# Altium footprint library AudioPartLib.PcbLib: 28 footprints (part 2 of 2)
Each footprint in its own frame and in the unit in brackets; x right, y up, seen from the top. Pads: shape width x height; smd on the part's side, far side on the other; paste and mask are expansions set on the pad; w line width, h text height; cw(c..) or ccw(c..) is an arc to the next point about the centre after c.
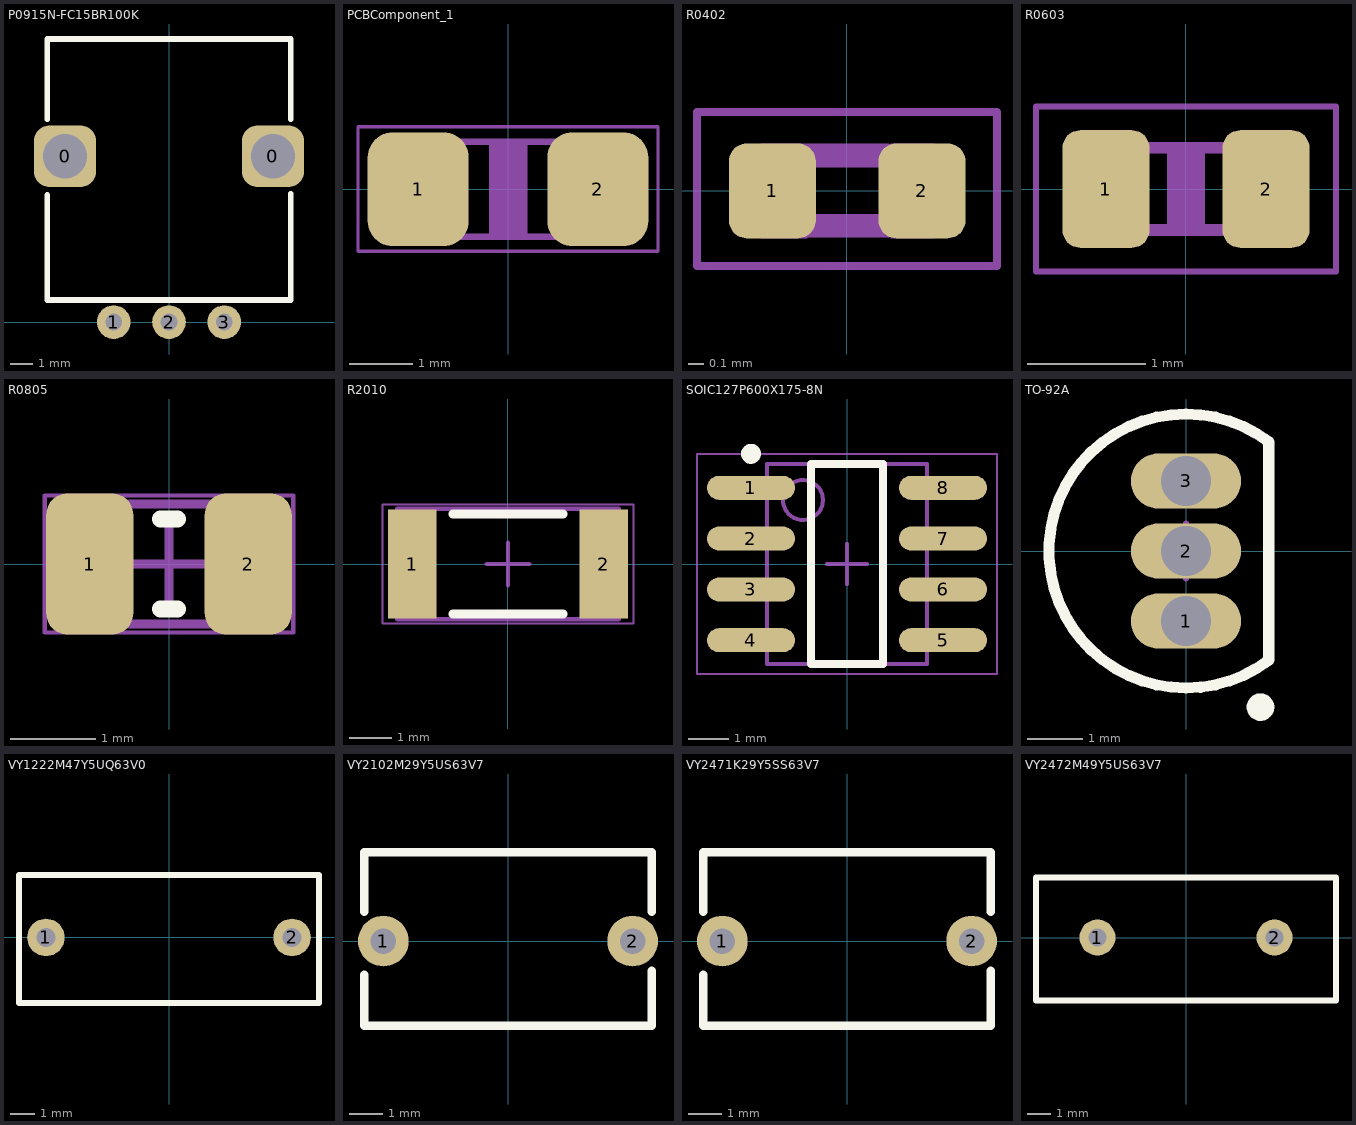
[diagram p1: the footprints below, top view; thin cyan lines are the x and y axes]

## P0915N-FC15BR100K [mm] "Vertical PCB Mounted Potentiometer Single Gang"
pads (5):
  rrect50% 2.8x2.8 hole 2: 0(-4.7,7.5) 0(4.7,7.5)
  round 1.524 hole 0.762: 1(-2.5,0) 2(0,0) 3(2.5,0)
Top Overlay:
  lines w0.254: -5.5,5.749 -5.5,1 5.5,1 5.5,5.808 ; -5.5,9.178 -5.5,12.8 5.5,12.8 5.5,9.178

## PCBComponent_1 [mil]
pads (2):
  rrect50% 63x71 smd: 1(-55.98,0) 2(56,0)
Mechanical 6:
  rectangle: -11.81,-27.56 12,28
Mechanical 8:
  rectangle: -61.02,-31.5 -32.02,31.5
  rectangle: 32.02,-31.5 61.02,31.5
  lines w3.94: -40.35,29.53 35.65,29.53 ; -34.66,-29.53 41.34,-29.53
Mechanical 15:
  lines w2: -93.5,-38.7 93.5,-38.7 93.5,39 -93.5,39 -93.5,-38.7
3D body: height 23.62, standoff 0, extent -61.02,-31.5 61.02,31.5

## R0402 [mil]
pads (2):
  rrect40% 22x24 smd: 1(-18.9,0) 2(19,0)
Mechanical 8:
  rectangle: 11,-12 22,12
  rectangle: -21.81,-12 -10,12
  lines w6: -9.65,-8.82 10,-8.82 ; -9.65,9 10,9
Mechanical 15:
  lines w2: -37.99,-19.02 -37.99,20 38,20 38,-19.02 -37.99,-19.02
3D body: height 13.78, standoff 0, extent -20,-10 20,10

## R0603 [mm]
pads (2):
  rrect40% 0.74x1 smd: 1(-0.68,0) 2(0.68,0)
Mechanical 6:
  rectangle: -0.16,-0.3 0.16,0.3
Mechanical 8:
  rectangle: 0.45,-0.4 0.8,0.4
  rectangle: -0.8,-0.4 -0.45,0.4
  lines w0.1: -0.45,0.35 0.45,0.35
  lines w0.102: -0.45,-0.35 0.45,-0.35
Mechanical 15:
  lines w0.051: -1.275,-0.7 -1.275,0.7 1.275,0.7 1.275,-0.7 -1.275,-0.7
3D body: height 0.8, standoff 0, extent -0.8,-0.4 0.8,0.4

## R0805 [mil]
height 19.68
pads (2):
  rrect50% 40x65 smd: 1(-36.42,0) 2(36.42,0)
Top Overlay:
  lines w7.87: -3.94,-20.67 3.94,-20.67 ; -3.94,20.67 3.94,20.67
Mechanical 13:
  lines w3.94: -43.31,-27.56 -43.31,27.56 43.31,27.56 43.31,-27.56 -43.31,-27.56
Mechanical 15:
  lines w1.97: -57.09,-31.5 -57.09,31.5 57.09,31.5 57.09,-31.5 -57.09,-31.5
  lines w3.94: -19.68,0 19.69,0 ; 0,-19.68 0,19.68
3D body: height 19.68, standoff 0, extent -29.53,-27.56 29.53,27.56
3D body: height 19.68, standoff 0, extent -43.31,-27.56 -29.53,27.56
3D body: height 19.68, standoff 0, extent 29.53,-27.56 43.31,27.56

## R2010 [mm]
height 0.75
pads (2):
  rect 1.15x2.55 smd: 1(-2.25,0) 2(2.25,0)
Top Overlay:
  lines w0.2: -1.3,-1.175 1.3,-1.175 ; -1.3,1.175 1.3,1.175
Mechanical 13:
  lines w0.1: -2.6,-1.3 2.6,-1.3 2.6,1.3 -2.6,1.3 -2.6,-1.3
Mechanical 15:
  lines w0.05: -2.95,-1.4 2.95,-1.4 2.95,1.4 -2.95,1.4 -2.95,-1.4
  lines w0.1: -0.5,0 0.5,0 ; 0,-0.5 0,0.5
3D body: height 0.75, standoff 0, extent 2.1,-1.3 2.6,1.3
3D body: height 0.75, standoff 0, extent -2.6,-1.3 -2.1,1.3
3D body: height 0.75, standoff 0, extent -2.1,-1.3 2.1,1.3

## SOIC127P600X175-8N [mm] "SOIC, 8-Leads, Body 4.75x3.90mm, Pitch 1.27mm, IPC Medium Density"
height 1.75
pads (8):
  oval 2.2x0.6 smd: 1(-2.4,1.905) 2(-2.4,0.635) 3(-2.4,-0.635) 4(-2.4,-1.905) 5(2.4,-1.905) 6(2.4,-0.635) 7(2.4,0.635) 8(2.4,1.905)
Top Overlay:
  circle w0.25: c-2.4,2.755 r0.125
  lines w0.2: -0.9,-2.5 -0.9,2.5 0.9,2.5 0.9,-2.5 -0.9,-2.5
Mechanical 13:
  circle w0.1: c-1.1,1.6 r0.5
  lines w0.1: -2,-2.5 -2,2.5 2,2.5 2,-2.5 -2,-2.5
Mechanical 15:
  lines w0.05: -3.75,-2.75 -3.75,2.75 3.75,2.75 3.75,-2.75 -3.75,-2.75
  lines w0.1: -0.5,0 0.5,0 ; 0,-0.5 0,0.5
3D body: height 1.75, standoff 0.25, extent -2,-2.5 2,2.5

## TO-92A [mm] "TO, Flat Index; 3 In-Line, Axial Leads; Body Dia. 4.5mm; Leads 0.51 x 0.48 mm (max)"
height 6.86
pads (3):
  oval 2x1 hole 0.9: 1(0,-1.27) 2(0,0) 3(0,1.27)
Top Overlay:
  circle w0.25: c1.35,-2.83 r0.125
  lines w0.2: 1.5,-1.98 cw(c0,0) 1.5,1.98 1.5,-1.98
Mechanical 13:
  lines w0.1: 1.5,-1.98 cw(c0,0) 1.5,1.98 1.5,-1.98
Mechanical 15:
  lines w0.1: -0.5,0 0.5,0 ; 0,-0.5 0,0.5
3D body: height 6.86, standoff 2.2, extent -2.485,-2.495 1.501,2.495

## VY1222M47Y5UQ63V0 [mil] "VY1222M47Y5UQ63V0 Throughhole Disc Ceramic Capacitor"
pads (2):
  round 60 hole 30: 1(-196.85,0) 2(196.85,0)
Top Overlay:
  lines w10: -240,-105 240,-105 240,100 -240,100 -240,-105
3D body "VY1222M47Y5UQ63V0.stp": height 650.75, standoff -1159.8, extent -234.99,-101.93 235,94.92

## VY2102M29Y5US63V7 [mil]
pads (2):
  round 60 hole 30: 1(-147.64,0) 2(147.64,0)
Top Overlay:
  lines w10: -170,-40 -170,-100 170,-100 170,-35 ; -170,35 -170,105 170,105 170,35
3D body "VY2102M29Y5US63V7.stp": height 1171.22, standoff -462.62, extent -163.38,-95.7 163.39,101.15

## VY2471K29Y5SS63V7 [mil] "VY2471K29Y5SS63V7 Ceranic Disc Throughole Cap"
pads (2):
  round 60 hole 30: 1(-147.64,0) 2(147.64,0)
Top Overlay:
  lines w10: -170,-40 -170,-100 170,-100 170,-35 ; -170,35 -170,105 170,105 170,35
3D body "VY2471K29Y5SG63V7.stp": height 462.62, standoff -1171.22, extent -163.38,-95.71 163.39,101.14

## VY2472M49Y5US63V7 [mil]
pads (2):
  round 60 hole 30: 1(-147.64,0) 2(147.64,0)
Top Overlay:
  lines w10: -250,-105 250,-105 250,100 -250,100 -250,-105
3D body "VY2472M49Y5US63V7.stp": height 660.67, standoff -1169.65, extent -245.97,-100.7 245.98,96.15